# Altium footprint library NIC_eLTE_HUAWEI_ED01r2.PcbLib: 3 footprints
Each footprint in its own frame and in the unit in brackets; x right, y up, seen from the top. Pads: shape width x height; smd on the part's side, far side on the other; paste and mask are expansions set on the pad; w line width, h text height; cw(c..) or ccw(c..) is an arc to the next point about the centre after c.
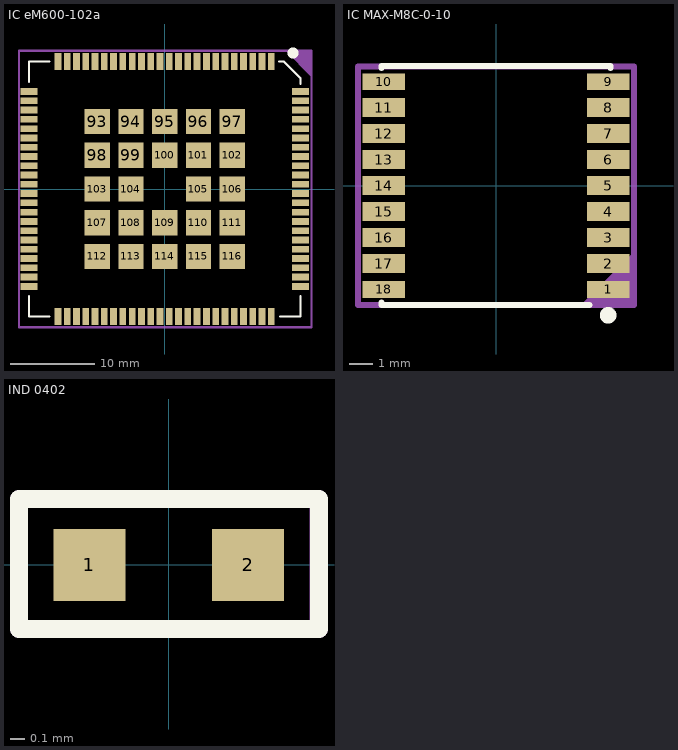
[diagram p0: the footprints below, top view; thin cyan lines are the x and y axes]

## IC eM600-102a [mm]
pads (116):
  rect 0.8x2.03 smd mask+0: 1(12.64,15.1) 2(11.54,15.1) 3(10.44,15.1) 4(9.34,15.1) 5(8.24,15.1) 6(7.14,15.1) 7(6.04,15.1) 8(4.94,15.1) 9(3.84,15.1) 10(2.74,15.1) 11(1.64,15.1) 12(0.54,15.1) 13(-0.56,15.1) 14(-1.66,15.1) 15(-2.76,15.1) 16(-3.86,15.1) 17(-4.96,15.1) 18(-6.06,15.1) 19(-7.16,15.1) 20(-8.26,15.1) 21(-9.36,15.1) 22(-10.46,15.1) 23(-11.56,15.1) 24(-12.66,15.1) 47(-12.66,-15.1) 48(-11.56,-15.1) 49(-10.46,-15.1) 50(-9.36,-15.1) 51(-8.26,-15.1) 52(-7.16,-15.1) 53(-6.06,-15.1) 54(-4.96,-15.1) 55(-3.86,-15.1) 56(-2.76,-15.1) 57(-1.66,-15.1) 58(-0.56,-15.1) 59(0.54,-15.1) 60(1.64,-15.1) 61(2.74,-15.1) 62(3.84,-15.1) 63(4.94,-15.1) 64(6.04,-15.1) 65(7.14,-15.1) 66(8.24,-15.1) 67(9.34,-15.1) 68(10.44,-15.1) 69(11.54,-15.1) 70(12.64,-15.1)
  rect 2.03x0.8 smd paste+0 mask+0: 25(-16.095,11.556)
  rect 2.03x0.8 smd mask+0: 26(-16.095,10.456) 27(-16.095,9.356) 28(-16.095,8.256) 29(-16.095,7.156) 30(-16.095,6.056) 31(-16.095,4.956) 32(-16.095,3.856) 33(-16.095,2.756) 34(-16.095,1.656) 35(-16.095,0.556) 36(-16.095,-0.544) 37(-16.095,-1.644) 38(-16.095,-2.744) 39(-16.095,-3.844) 40(-16.095,-4.944) 41(-16.095,-6.044) 42(-16.095,-7.144) 43(-16.095,-8.244) 44(-16.095,-9.344) 45(-16.095,-10.444) 46(-16.095,-11.544) 71(16.095,-11.544) 72(16.095,-10.444) 73(16.095,-9.344) 74(16.095,-8.244) 75(16.095,-7.144) 76(16.095,-6.044) 77(16.095,-4.944) 78(16.095,-3.844) 79(16.095,-2.744) 80(16.095,-1.644) 81(16.095,-0.544) 82(16.095,0.556) 83(16.095,1.656) 84(16.095,2.756) 85(16.095,3.856) 86(16.095,4.956) 87(16.095,6.056) 88(16.095,7.156) 89(16.095,8.256) 90(16.095,9.356) 91(16.095,10.456) 92(16.095,11.556)
  rect 3x3 smd mask+0: 93(-8,8) 94(-4,8) 95(0,8) 96(4,8) 97(8,8) 98(-8,4) 99(-4,4) 100(0,4) 101(4,4) 102(8,4) 103(-8,0) 104(-4,0) 105(4,0) 106(8,0) 107(-8,-4) 108(-4,-4) 109(0,-4) 110(4,-4) 111(8,-4) 112(-8,-8) 113(-4,-8) 114(0,-8) 115(4,-8) 116(8,-8)
Top Overlay:
  circle w1: c15.2,16.125 r0.15
  lines w0.254: -16.105,-12.669 -16.105,-15.1 -13.674,-15.1 ; -16.105,12.669 -16.105,15.1 -13.674,15.1 ; 13.529,15.1 14.139,15.1 16.095,13.144 16.095,12.433 ; 13.663,-15.1 16.095,-15.1 16.095,-12.669
Top Assembly:
  region: 18.288,14.732
  region: 17.399,16.383 14.351,16.383 17.399,13.335
  lines w0.254: -17.272,-16.383 -17.272,16.383 17.399,16.383 17.399,-16.383 -17.272,-16.383
  text "'.Designator'" at -1.651,0 h0.7
3D body: height 3, standoff 0, extent -16.125,-15.1 16.1,15.125
3D body: height 0.25, standoff 0, extent 7.56,12.179 7.56,12.179

## IC MAX-M8C-0-10 [mm]
pads (18):
  rect 1.8x0.7 smd paste+0 mask+0.05: 1(4.75,-4.4)
  rect 1.8x0.8 smd mask+0.05: 2(4.75,-3.3) 3(4.75,-2.2) 4(4.75,-1.1) 5(4.75,0) 6(4.75,1.1) 7(4.75,2.2) 8(4.75,3.3) 11(-4.75,3.3) 12(-4.75,2.2) 13(-4.75,1.1) 14(-4.75,0) 15(-4.75,-1.1) 16(-4.75,-2.2) 17(-4.75,-3.3)
  rect 1.8x0.7 smd mask+0.05: 9(4.75,4.4) 10(-4.75,4.4) 18(-4.75,-4.4)
Top Overlay:
  circle w0.5: c4.75,-5.492 r0.1
  lines w0.254: -4.851,-4.959 -4.851,-5.046 3.949,-5.046 ; -4.846,4.973 -4.846,5.06 4.852,5.06 4.852,4.973
Top Assembly:
  region: 5.842,-5.051 5.842,-2.794 3.556,-5.08
  region: 6.858,-1.651
  lines w0.254: -5.842,-5.051 -5.842,5.049 5.842,5.049 5.842,-5.051 -5.842,-5.051
  text "'.Designator'" at -1.751,-0.168 h0.7
3D body "MAX-M8_GNSS.step": height 2.51, standoff 0.01, extent -4.851,-5.05 4.851,5.05

## IND 0402 [mm]
pads (2):
  rect 0.5x0.5 smd mask+0: 1(-0.55,0) 2(0.55,0)
Top Overlay:
  lines w0.127: -1.038,0.456 -1.038,-0.444 1.041,-0.444 1.041,0.457 -1.016,0.457
Top Assembly:
  lines w0.127: -1.038,0.456 -1.038,-0.444 1.042,-0.444 ; -1.016,0.457 1.038,0.457 1.038,-0.444
  text "'.Designator'" at -1.322,-0.33 h1.27
3D body "Coilcraft-0402AF.step": height 0.67, standoff 0.01, extent -0.866,-0.256 0.254,0.256
3D body: height 6, standoff 1, extent 0.329,-1.27 0.329,-1.27